# Altium footprint library Footprint.PcbLib: 97 footprints (part 1 of 7)
Each footprint in its own frame and in the unit in brackets; x right, y up, seen from the top. Pads: shape width x height; smd on the part's side, far side on the other; paste and mask are expansions set on the pad; w line width, h text height; cw(c..) or ccw(c..) is an arc to the next point about the centre after c.
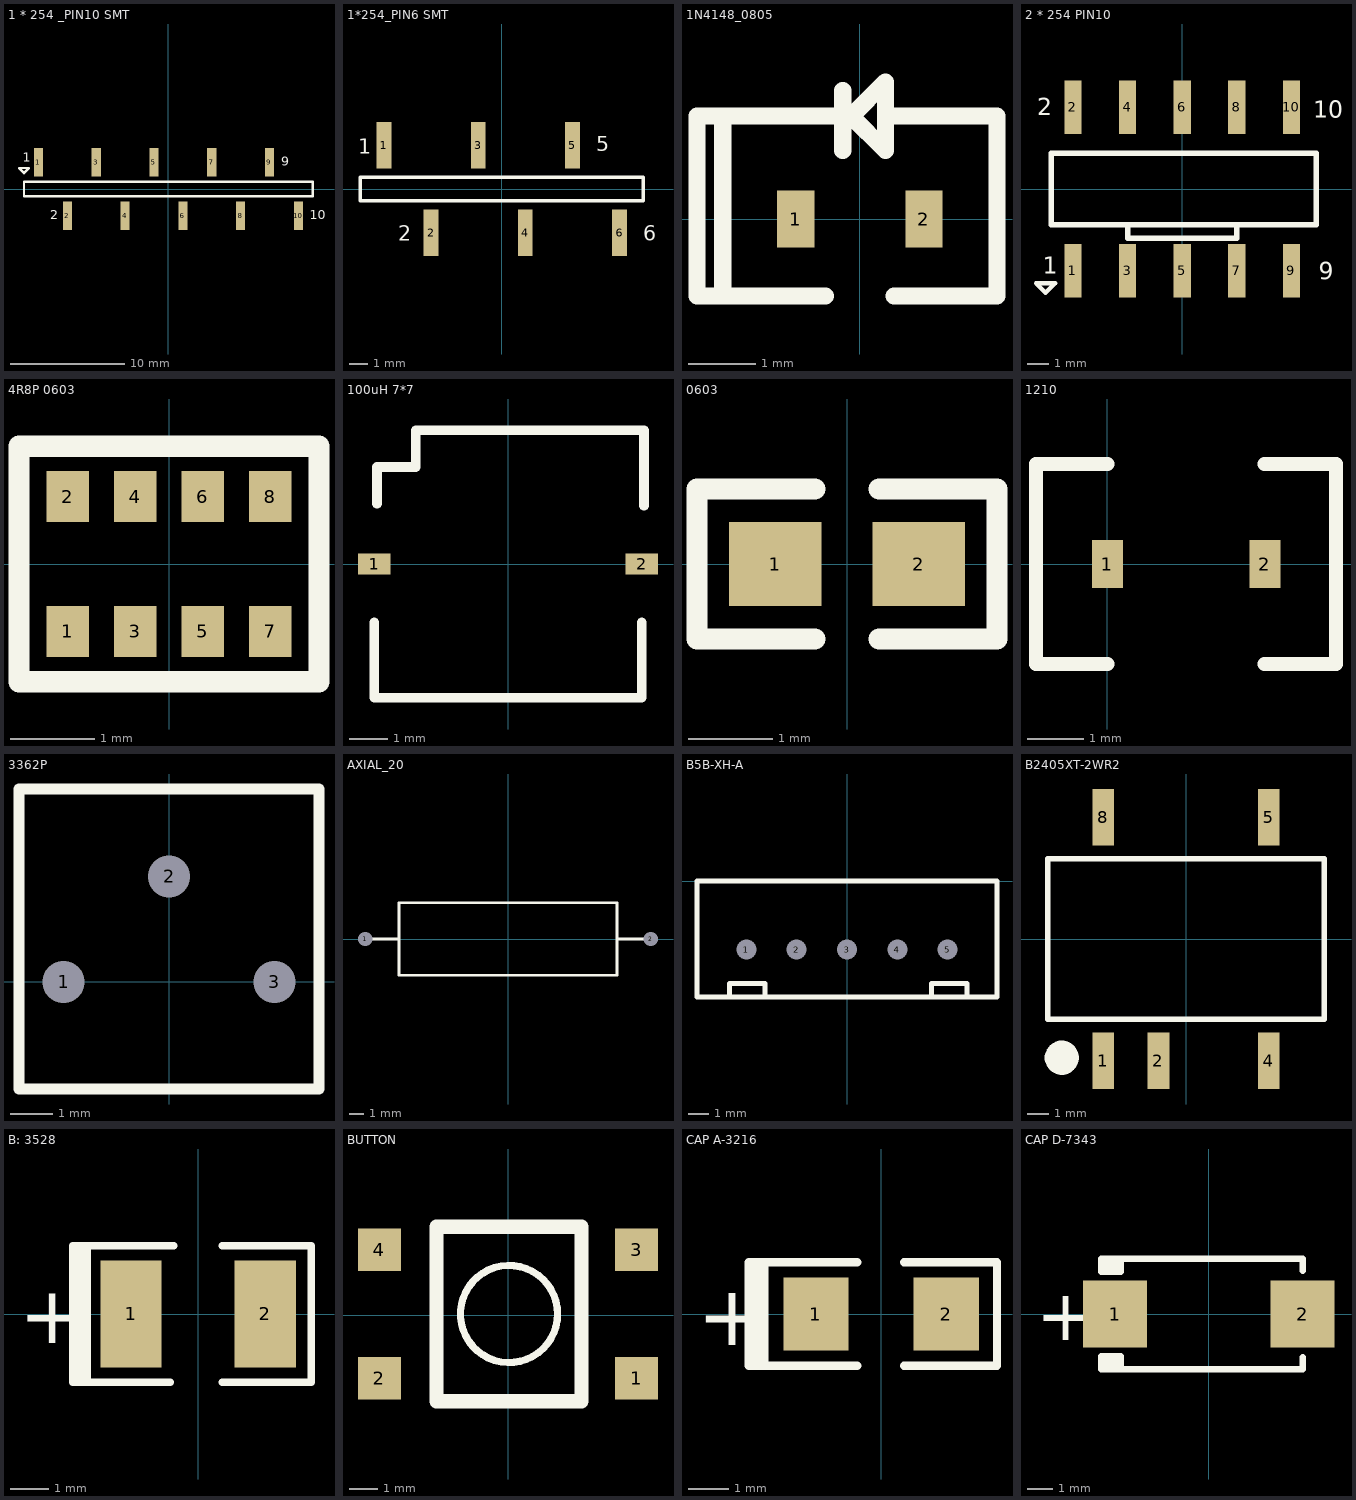
[diagram p0: the footprints below, top view; thin cyan lines are the x and y axes]

## 1 * 254 _PIN10 SMT [mm]
pads (10):
  rect 0.8x2.5 smd: 1(-11.43,2.35) 2(-8.89,-2.35) 3(-6.35,2.35) 4(-3.81,-2.35) 5(-1.27,2.35) 6(1.27,-2.35) 7(3.81,2.35) 8(6.35,-2.35) 9(8.89,2.35) 10(11.43,-2.35)
Top Overlay:
  lines w0.2: -13.144,1.841 -12.7,1.397 -12.255,1.841 -13.144,1.841 ; -12.7,-0.635 12.7,-0.635 12.7,0.635 -12.7,0.635 -12.7,-0.635
  text "1" at -12.827,2.413 h0.8
  text "2" at -10.414,-2.667 h0.8
  text "9" at 9.906,2.032 h0.8
  text "10" at 12.446,-2.667 h0.8

## 1*254_PIN6 SMT [mm] "2.54mm"
pads (6):
  rect 0.8x2.5 smd: 1(-6.35,2.35) 2(-3.81,-2.35) 3(-1.27,2.35) 4(1.27,-2.35) 5(3.81,2.35) 6(6.35,-2.35)
Top Overlay:
  lines w0.2: -7.62,-0.635 7.62,-0.635 7.62,0.635 -7.62,0.635 -7.62,-0.635
  text "1" at -7.747,1.905 h0.8
  text "2" at -5.588,-2.794 h0.8
  text "5" at 5.08,2.032 h0.8
  text "6" at 7.62,-2.794 h0.8

## 1N4148_0805 [mm]
pads (2):
  rect 0.55x0.85 smd: 1(-0.95,0) 2(0.95,0)
Top Overlay:
  lines w0.254: -0.508,-1.143 -2.032,-1.143 ; -0.381,1.524 -2.032,1.524 ; -0.254,1.016 -0.254,1.905 ; 0.508,-1.143 2.032,-1.143 2.032,1.524 0.381,1.524 ; -2.032,-1.143 -2.413,-1.143 -2.413,1.524 -2.032,1.524 ; -2.032,-1.143 -2.032,1.524 ; 0.381,1.524 0.381,1.016 -0.127,1.524 0.381,2.032 0.381,1.524

## 2 * 254 PIN10 [mm]
pads (10):
  rect 0.8x2.5 smd: 1(-5.08,-3.8) 2(-5.08,3.8) 3(-2.54,-3.8) 4(-2.54,3.8) 5(0,-3.8) 6(0,3.8) 7(2.54,-3.8) 8(2.54,3.8) 9(5.08,-3.8) 10(5.08,3.8)
Top Overlay:
  lines w0.2: -6.794,-4.381 -5.905,-4.381 -6.35,-4.826 -6.794,-4.381
  lines w0.254: -2.54,-1.651 -2.54,-2.286 2.54,-2.286 2.54,-1.651 ; -6.096,-1.651 6.223,-1.651 6.223,1.651 -6.096,1.651 -6.096,-1.651
  text "1" at -6.477,-3.937 h0.8
  text "9" at 6.35,-4.191 h0.8
  text "2" at -6.731,3.429 h0.8
  text "10" at 6.096,3.302 h0.8

## 4R8P 0603 [mm]
pads (8):
  rect 0.5x0.6 smd: 1(-1.2,-0.8) 2(-1.2,0.8) 3(-0.4,-0.8) 4(-0.4,0.8) 5(0.4,-0.8) 6(0.4,0.8) 7(1.2,-0.8) 8(1.2,0.8)
Top Overlay:
  lines w0.254: -1.778,-1.397 1.778,-1.397 1.778,1.397 -1.778,1.397 -1.778,-1.397

## 100uH 7*7 [mm]
pads (2):
  rect 0.85x0.55 smd: 1(-3.5,0) 2(3.5,0)
Top Overlay:
  lines w0.254: -3.5,-1.524 -3.5,-3.5 3.5,-3.5 3.5,-1.524 ; -3.429,1.58 -3.429,2.54 -2.413,2.54 -2.413,3.5 2.54,3.5 3.556,3.5 3.556,1.524

## 0603 [mm]
pads (2):
  rect 1.1x1 smd: 1(-0.85,0) 2(0.85,0)
Top Overlay:
  lines w0.254: -0.381,-0.889 -1.778,-0.889 -1.778,0.889 -0.381,0.889 ; 0.381,-0.889 1.778,-0.889 1.778,0.889 0.381,0.889

## 1210 [mm]
pads (2):
  rect 0.55x0.85 smd: 1(0,0) 2(2.8,0)
Top Overlay:
  lines w0.254: 0,-1.778 -1.27,-1.778 -1.27,1.778 0,1.778 ; 2.794,-1.778 4.064,-1.778 4.064,1.778 2.794,1.778

## 3362P [mm]
pads (3):
  rect 0.85x0.55 hole 1: 1(-2.5,0)
  oval 0.85x0.55 hole 1: 2(0,2.5) 3(2.5,0)
Top Overlay:
  lines w0.254: -3.556,-2.54 -3.556,4.572 3.556,4.572 3.556,-2.54 -3.556,-2.54

## AXIAL_20 [mm]
pads (2):
  oval 0.85x0.55 hole 1: 1(-10,0) 2(10,0)
Top Overlay:
  lines w0.2: -9.525,0 -7.62,0 ; 7.62,0 9.525,0 ; -7.62,-2.54 -7.62,2.54 7.62,2.54 7.62,-2.54 -7.62,-2.54

## B5B-XH-A [mm]
pads (5):
  rect 0.85x0.55 hole 1: 1(-5,-3.4)
  oval 0.85x0.55 hole 1: 2(-2.5,-3.4) 3(0,-3.4) 4(2.5,-3.4) 5(5,-3.4)
Top Overlay:
  lines w0.254: -5.842,-5.75 -5.842,-5.08 -4.064,-5.08 -4.064,-5.75 ; 4.191,-5.75 4.191,-5.08 5.969,-5.08 5.969,-5.75 ; -7.45,-5.75 7.45,-5.75 7.45,0 -7.45,0 -7.45,-5.75

## B2405XT-2WR2 [mm]
pads (5):
  rect 1x2.6 smd: 1(-3.81,-5.6) 2(-1.27,-5.6) 4(3.81,-5.6) 5(3.81,5.6) 8(-3.81,5.6)
Top Overlay:
  circle w1: c-5.715,-5.461 r0.284
  lines w0.254: -6.35,-3.683 -6.35,3.683 6.35,3.683 6.35,-3.683 -6.35,-3.683

## B: 3528 [mm] "钽电容B型"
pads (2):
  rect 1.6x2.8 smd: 1(-1.75,0) 2(1.75,0)
Top Overlay:
  lines w0.2: -3.274,-1.738 -3.274,1.778 ; -3.147,-1.772 -3.147,1.778 ; -3.02,1.778 -2.977,1.735 -2.977,-1.778 ; -2.893,1.778 -2.893,-1.708 -2.823,-1.778 ; -0.734,-1.778 -3.274,-1.778 -3.274,1.778 ; -0.635,1.778 -3.274,1.778 ; 0.635,-1.778 2.949,-1.778 2.949,1.778 0.635,1.778
  text "+" at -4.671,-0.762 h1.5

## BUTTON [mm]
pads (4):
  rect 1.5x1.5 smd: 1(4.5,-2.211) 2(-4.5,-2.211) 3(4.5,2.289) 4(-4.5,2.289)
Top Overlay:
  circle w0.254: c0.036,0.039 r1.7
  lines w0.5: -2.504,-3.011 2.576,-3.011 2.576,3.089 -2.504,3.089 -2.504,-3.011

## CAP A-3216 [mm]
pads (2):
  rect 1.6x1.8 smd: 1(-1.6,0) 2(1.6,0)
Top Overlay:
  lines w0.2: -3.06,-1.27 -3.06,1.27 -0.584,1.27 ; -2.87,-1.27 -2.87,1.27 ; -2.616,1.27 -3.251,1.27 -3.251,-1.27 -0.584,-1.27 ; 0.562,-1.27 2.848,-1.27 2.848,1.27 0.562,1.27
  text "+" at -4.521,-0.762 h1.5

## CAP D-7343 [mm]
pads (2):
  rect 2.5x2.6 smd: 1(-3.65,0) 2(3.65,0)
Top Overlay:
  lines w0.254: -4.191,-1.905 -3.65,-1.905 ; -4.191,1.905 -3.65,1.905 ; -3.937,1.651 -3.429,1.651 -3.429,2.15 ; -3.683,1.651 -4.191,1.651 -4.191,2.141 -4.182,2.15 -3.65,2.15 ; -3.65,-1.684 -3.65,-2.15 ; -3.65,1.684 -3.65,2.15 ; -3.429,-2.15 -3.429,-1.651 -3.683,-1.651 -4.191,-1.651 -4.191,-2.141 -4.182,-2.15 -3.65,-2.15 ; 3.65,-1.684 3.65,-2.15 -3.65,-2.15 ; 3.65,1.684 3.65,2.15 -3.65,2.15
  text "+" at -6.731,-1.016 h2